# EAGLE library part IV-9 (library FHD-RETRO)
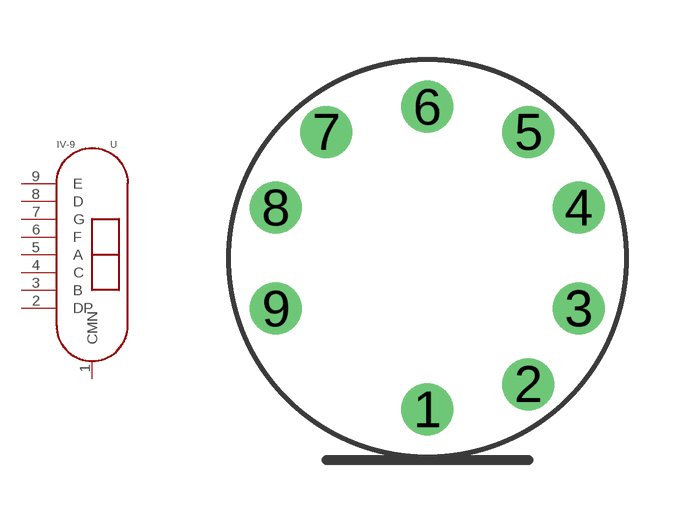
[diagram p8: symbol with the pads of IV-9; footprint IV-9]

Designator prefix -

## IV-9  [IV-9]
1  CMN
2  DP
3  B
4  C
5  A
6  F
7  G
8  D
9  E

## Footprint IV-9 (pad centres in mm)
drill 0.8: 1 0,-3.81; 2 2.54,-3.175; 3 3.81,-1.27; 4 3.81,1.27; 5 2.54,3.175; 6 0,3.81; 7 -2.54,3.175; 8 -3.81,1.27; 9 -3.81,-1.27